# Altium footprint library footprintsGPSrev0.PcbLib: 1 footprints
Each footprint in its own frame and in the unit in brackets; x right, y up, seen from the top. Pads: shape width x height; smd on the part's side, far side on the other; paste and mask are expansions set on the pad; w line width, h text height; cw(c..) or ccw(c..) is an arc to the next point about the centre after c.
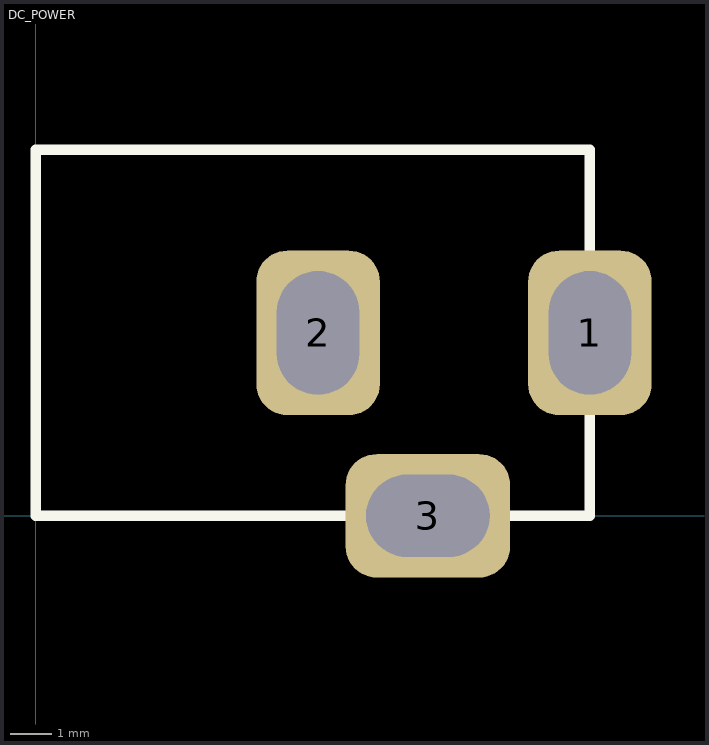
[diagram p0: the footprint, top view; thin cyan lines are the x and y axes]

## DC_POWER [mm]
pads (3):
  rrect50% 3x4 hole 2 slot 3 at 90 deg: 1(13.462,4.445) 2(6.858,4.445)
  rrect50% 4x3 hole 2 slot 3 at 0 deg: 3(9.525,0)
Top Overlay:
  lines w0.254: 0,0 13.462,0 13.462,8.89 0,8.89 0,0